# EAGLE library part AMBE-2020-10 (library dvs-inc)
VOCODER
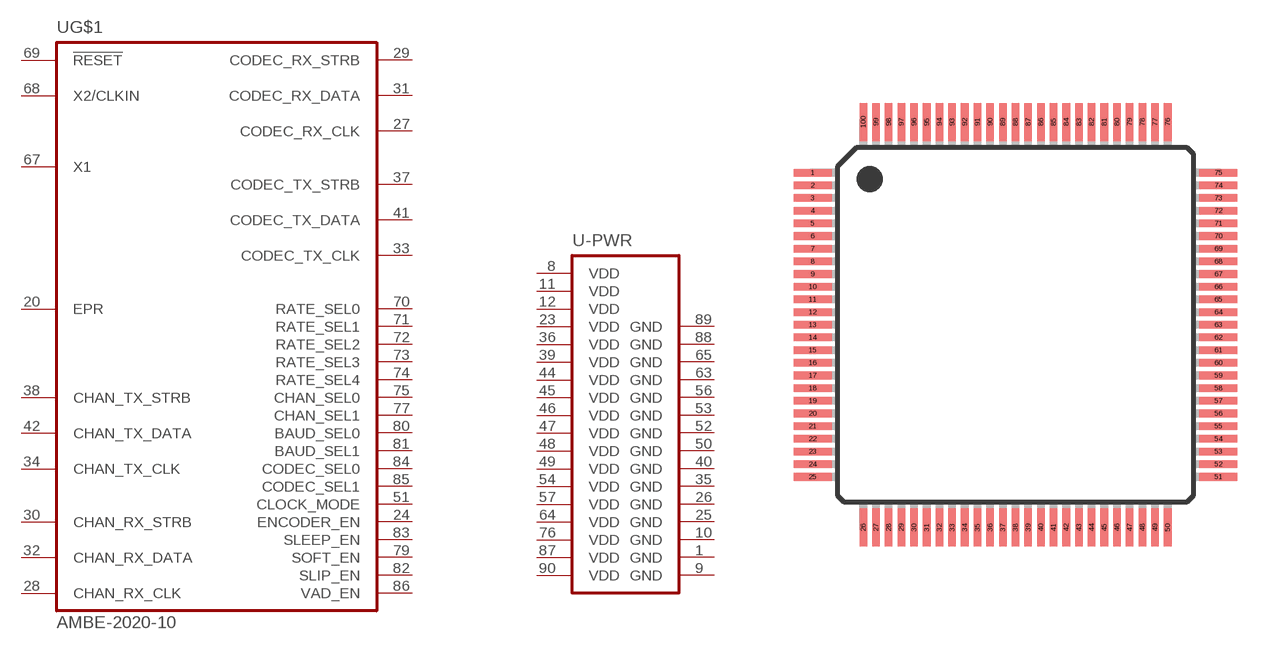
[diagram p0: symbol with the pads of TQFP100; footprint TQFP100]

Designator prefix U; gates G$1=AMBE-2020-10 -PWR=AMBE-2020-10-PWR

## AMBE-2020-10  [TQFP100]
1  -PWR:GND  pwr
8  -PWR:VDD  pwr
9  -PWR:GND  pwr
10  -PWR:GND  pwr
11  -PWR:VDD  pwr
12  -PWR:VDD  pwr
20  G$1:EPR  out
23  -PWR:VDD  pwr
24  G$1:ENCODER_EN  in
25  -PWR:GND  pwr
26  -PWR:GND  pwr
27  G$1:CODEC_RX_CLK  in
28  G$1:CHAN_RX_CLK  in
29  G$1:CODEC_RX_STRB  in
30  G$1:CHAN_RX_STRB  in
31  G$1:CODEC_RX_DATA  in
32  G$1:CHAN_RX_DATA  in
33  G$1:CODEC_TX_CLK  in
34  G$1:CHAN_TX_CLK  in
35  -PWR:GND  pwr
36  -PWR:VDD  pwr
37  G$1:CODEC_TX_STRB  in
38  G$1:CHAN_TX_STRB
39  -PWR:VDD  pwr
40  -PWR:GND  pwr
41  G$1:CODEC_TX_DATA  out
42  G$1:CHAN_TX_DATA  in
44  -PWR:VDD  pwr
45  -PWR:VDD  pwr
46  -PWR:VDD  pwr
47  -PWR:VDD  pwr
48  -PWR:VDD  pwr
49  -PWR:VDD  pwr
50  -PWR:GND  pwr
51  G$1:CLOCK_MODE  in
52  -PWR:GND  pwr
53  -PWR:GND  pwr
54  -PWR:VDD  pwr
56  -PWR:GND  pwr
57  -PWR:VDD  pwr
63  -PWR:GND  pwr
64  -PWR:VDD  pwr
65  -PWR:GND  pwr
67  G$1:X1  in
68  G$1:X2/CLKIN  in
69  G$1:!RESET!  in
70  G$1:RATE_SEL0  in
71  G$1:RATE_SEL1  in
72  G$1:RATE_SEL2  in
73  G$1:RATE_SEL3  in
74  G$1:RATE_SEL4  in
75  G$1:CHAN_SEL0  in
76  -PWR:VDD  pwr
77  G$1:CHAN_SEL1  in
79  G$1:SOFT_EN  in
80  G$1:BAUD_SEL0  in
81  G$1:BAUD_SEL1  in
82  G$1:SLIP_EN  in
83  G$1:SLEEP_EN  in
84  G$1:CODEC_SEL0  in
85  G$1:CODEC_SEL1  in
86  G$1:VAD_EN  in
87  -PWR:VDD  pwr
88  -PWR:GND  pwr
89  -PWR:GND  pwr
90  -PWR:VDD  pwr

## Footprint TQFP100 (pad centres in mm)
Plastic Thin Quad Flat Pack
smd 1.5 x 0.3: 1 -8,6; 2 -8,5.5; 3 -8,5; 4 -8,4.5; 5 -8,4; 6 -8,3.5; 7 -8,3; 8 -8,2.5; 9 -8,2; 10 -8,1.5; 11 -8,1; 12 -8,0.5; 13 -8,0; 14 -8,-0.5; 15 -8,-1; 16 -8,-1.5; 17 -8,-2; 18 -8,-2.5; 19 -8,-3; 20 -8,-3.5; 21 -8,-4; 22 -8,-4.5; 23 -8,-5; 24 -8,-5.5; 25 -8,-6; 51 8,-6; 52 8,-5.5; 53 8,-5; 54 8,-4.5; 55 8,-4; 56 8,-3.5; 57 8,-3; 58 8,-2.5; 59 8,-2; 60 8,-1.5; 61 8,-1; 62 8,-0.5; 63 8,0; 64 8,0.5; 65 8,1; 66 8,1.5; 67 8,2; 68 8,2.5; 69 8,3; 70 8,3.5; 71 8,4; 72 8,4.5; 73 8,5; 74 8,5.5; 75 8,6
smd 0.3 x 1.5: 26 -6,-8; 27 -5.5,-8; 28 -5,-8; 29 -4.5,-8; 30 -4,-8; 31 -3.5,-8; 32 -3,-8; 33 -2.5,-8; 34 -2,-8; 35 -1.5,-8; 36 -1,-8; 37 -0.5,-8; 38 0,-8; 39 0.5,-8; 40 1,-8; 41 1.5,-8; 42 2,-8; 43 2.5,-8; 44 3,-8; 45 3.5,-8; 46 4,-8; 47 4.5,-8; 48 5,-8; 49 5.5,-8; 50 6,-8; 76 6,8; 77 5.5,8; 78 5,8; 79 4.5,8; 80 4,8; 81 3.5,8; 82 3,8; 83 2.5,8; 84 2,8; 85 1.5,8; 86 1,8; 87 0.5,8; 88 0,8; 89 -0.5,8; 90 -1,8; 91 -1.5,8; 92 -2,8; 93 -2.5,8; 94 -3,8; 95 -3.5,8; 96 -4,8; 97 -4.5,8; 98 -5,8; 99 -5.5,8; 100 -6,8